# EAGLE library part LTC4053EMSE-4.2 (library dviid)
USB Compatible Lithium-Ion Battery Charger with Thermal Regulation
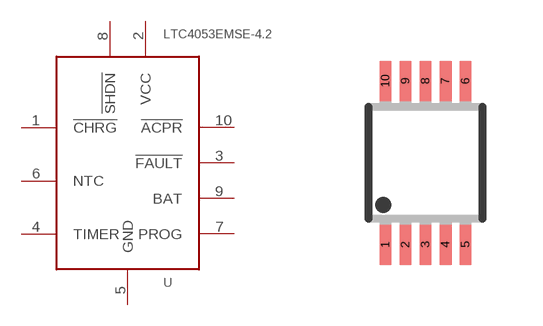
[diagram p0: symbol with the pads of MSOP10; footprint MSOP10]

Designator prefix -

## LTC4053EMSE-4.2  [MSOP10]
1  !CHRG  out
2  VCC  pwr
3  !FAULT  out
4  TIMER
5  GND  pwr
6  NTC  in
7  PROG
8  !SHDN  in
9  BAT  pwr
10  !ACPR  out

## Footprint MSOP10 (pad centres in mm)
10 Lead Platic MSOP Source: http://www.linear.com .. LT1996
smd 0.3 x 1: 1 -1,-2.05; 2 -0.5,-2.05; 3 0,-2.05; 4 0.5,-2.05; 5 1,-2.05; 6 1,2.05; 7 0.5,2.05; 8 0,2.05; 9 -0.5,2.05; 10 -1,2.05